# Altium schematic symbol library ic.schlib: 2 symbols
Pins are listed as number, name and electrical type; pins without a type are passive.

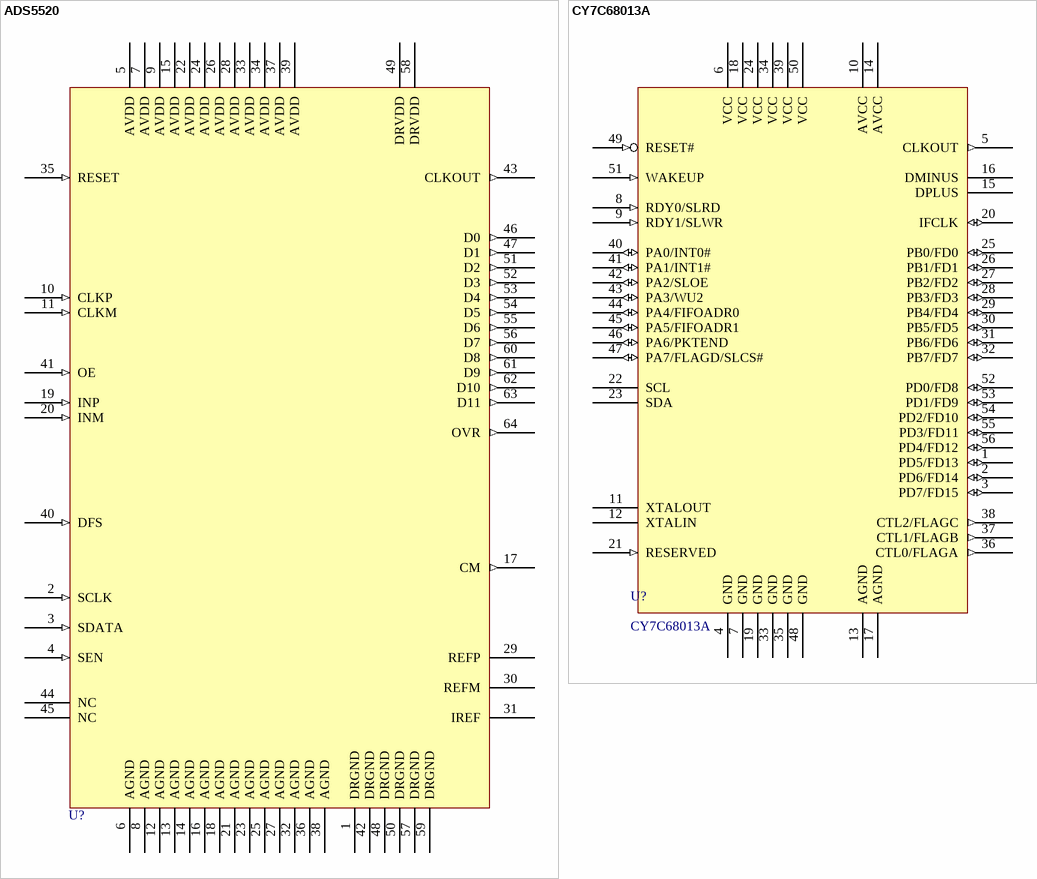
[diagram p0: symbols ADS5520 to CY7C68013A]

## ADS5520
designator U?
ADC 12BIT 125MSPS
pins: 1 DRGND (power), 2 SCLK (in), 3 SDATA (in), 4 SEN (in), 5 AVDD (power), 6 AGND (power), 7 AVDD (power), 8 AGND (power), 9 AVDD (power), 10 CLKP (in), 11 CLKM (in), 12 AGND (power), 13 AGND (power), 14 AGND (power), 15 AVDD (power), 16 AGND (power), 17 CM (out), 18 AGND (power), 19 INP (in), 20 INM (in), 21 AGND (power), 22 AVDD (power), 23 AGND (power), 24 AVDD (power), 25 AGND (power), 26 AVDD (power), 27 AGND (power), 28 AVDD (power), 29 REFP, 30 REFM, 31 IREF, 32 AGND (power), 33 AVDD (power), 34 AVDD (power), 35 RESET (in), 36 AGND (power), 37 AVDD (power), 38 AGND (power), 39 AVDD (power), 40 DFS (in), 41 OE (in), 42 DRGND (power), 43 CLKOUT (out), 44 NC, 45 NC, 46 D0 (out), 47 D1 (out), 48 DRGND (power), 49 DRVDD (power), 50 DRGND (power), 51 D2 (out), 52 D3 (out), 53 D4 (out), 54 D5 (out), 55 D6 (out), 56 D7 (out), 57 DRGND (power), 58 DRVDD (power), 59 DRGND (power), 60 D8 (out), 61 D9 (out), 62 D10 (out), 63 D11 (out), 64 OVR (out)

## CY7C68013A
designator U?
EZ-USB FX2LP USB Microcontroller (56-SSOP)
pins: 1 PD5/FD13 (io), 2 PD6/FD14 (io), 3 PD7/FD15 (io), 4 GND (power), 5 CLKOUT (out), 6 VCC (power), 7 GND (power), 8 RDY0/SLRD (in), 9 RDY1/SLWR (in), 10 AVCC (power), 11 XTALOUT, 12 XTALIN, 13 AGND (power), 14 AVCC (power), 15 DPLUS, 16 DMINUS, 17 AGND (power), 18 VCC (power), 19 GND (power), 20 IFCLK (io), 21 RESERVED (in), 22 SCL, 23 SDA, 24 VCC (power), 25 PB0/FD0 (io), 26 PB1/FD1 (io), 27 PB2/FD2 (io), 28 PB3/FD3 (io), 29 PB4/FD4 (io), 30 PB5/FD5 (io), 31 PB6/FD6 (io), 32 PB7/FD7 (io), 33 GND (power), 34 VCC (power), 35 GND (power), 36 CTL0/FLAGA (out), 37 CTL1/FLAGB (out), 38 CTL2/FLAGC (out), 39 VCC (power), 40 PA0/INT0# (io), 41 PA1/INT1# (io), 42 PA2/SLOE (io), 43 PA3/WU2 (io), 44 PA4/FIFOADR0 (io), 45 PA5/FIFOADR1 (io), 46 PA6/PKTEND (io), 47 PA7/FLAGD/SLCS# (io), 48 GND (power), 49 RESET# (in), 50 VCC (power), 51 WAKEUP (in), 52 PD0/FD8 (io), 53 PD1/FD9 (io), 54 PD2/FD10 (io), 55 PD3/FD11 (io), 56 PD4/FD12 (io)